# Altium footprint library AD74416HBCPZ.PcbLib: 3 footprints
Each footprint in its own frame and in the unit in brackets; x right, y up, seen from the top. Pads: shape width x height; smd on the part's side, far side on the other; paste and mask are expansions set on the pad; w line width, h text height; cw(c..) or ccw(c..) is an arc to the next point about the centre after c.
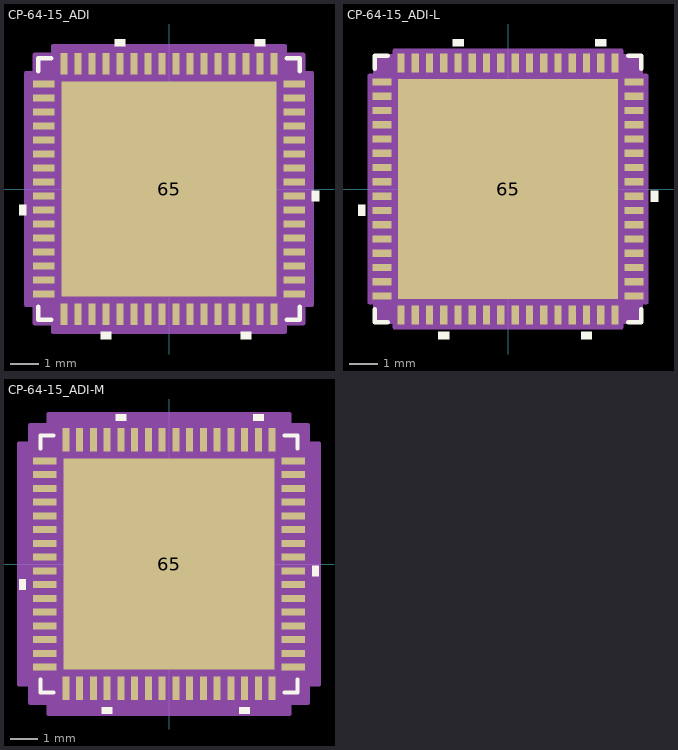
[diagram p0: the footprints below, top view; thin cyan lines are the x and y axes]

## CP-64-15_ADI [mil]
pads (65):
  rect 30x10 smd paste+0 mask+0: 1(-176,147.64) 2(-176,127.95) 3(-176,108.27) 4(-176,88.58) 5(-176,68.9) 6(-176,49.21) 7(-176,29.53) 8(-176,9.84) 9(-176,-9.84) 10(-176,-29.53) 11(-176,-49.21) 12(-176,-68.9) 13(-176,-88.58) 14(-176,-108.27) 15(-176,-127.95) 16(-176,-147.64) 33(176,-147.64) 34(176,-127.95) 35(176,-108.27) 36(176,-88.58) 37(176,-68.9) 38(176,-49.21) 39(176,-29.53) 40(176,-9.84) 41(176,9.84) 42(176,29.53) 43(176,49.21) 44(176,68.9) 45(176,88.58) 46(176,108.27) 47(176,127.95) 48(176,147.64)
  rect 10x30 smd paste+0 mask+0: 17(-147.64,-176) 18(-127.95,-176) 19(-108.27,-176) 20(-88.58,-176) 21(-68.9,-176) 22(-49.21,-176) 23(-29.53,-176) 24(-9.84,-176) 25(9.84,-176) 26(29.53,-176) 27(49.21,-176) 28(68.9,-176) 29(88.58,-176) 30(108.27,-176) 31(127.95,-176) 32(147.64,-176) 49(147.64,176) 50(127.95,176) 51(108.27,176) 52(88.58,176) 53(68.9,176) 54(49.21,176) 55(29.53,176) 56(9.84,176) 57(-9.84,176) 58(-29.53,176) 59(-49.21,176) 60(-68.9,176) 61(-88.58,176) 62(-108.27,176) 63(-127.95,176) 64(-147.64,176)
  rect 303x303 smd paste+0 mask+0: 65(0,0)
Top Overlay:
  region: -201,-22.03 -211,-22.03 -211,-37.03 -201,-37.03
  region: -81.08,-201 -96.08,-201 -96.08,-211 -81.08,-211
  region: 115.77,-201 100.77,-201 100.77,-211 115.77,-211
  region: 201,-2.34 211,-2.34 211,-17.34 201,-17.34
  region: 135.45,201 120.45,201 120.45,211 135.45,211
  region: -61.4,201 -76.4,201 -76.4,211 -61.4,211
  lines w6: -184,-165.74 -184,-184 -165.74,-184 ; -184,165.74 -184,184 -165.74,184 ; 165.74,-184 184,-184 184,-165.74 ; 165.74,184 184,184 184,165.74
  text "." at -225,145 h50
Mechanical 13:
  lines w1: -179,129 -129,179 ; -179,-179 179,-179 179,179 -179,179 -179,-179 ; -179,-153.64 -179,-141.64 -179,-153.64 ; -179,-133.95 -179,-121.95 -179,-133.95 ; -179,-114.27 -179,-102.27 -179,-114.27 ; -179,-94.58 -179,-82.58 -179,-94.58 ; -179,-74.9 -179,-62.9 -179,-74.9 ; -179,-55.21 -179,-43.21 -179,-55.21 ; -179,-35.53 -179,-23.53 -179,-35.53 ; -179,-15.84 -179,-3.84 -179,-15.84 ; -179,3.84 -179,15.84 -179,3.84 ; -179,23.53 -179,35.53 -179,23.53 ; -179,43.21 -179,55.21 -179,43.21 ; -179,62.9 -179,74.9 -179,62.9 ; -179,82.58 -179,94.58 -179,82.58 ; -179,102.27 -179,114.27 -179,102.27 ; -179,121.95 -179,133.95 -179,121.95 ; -179,141.64 -179,153.64 -179,141.64 ; -153.64,-179 -141.64,-179 -153.64,-179 ; -153.64,179 -141.64,179 -153.64,179 ; -133.95,-179 -121.95,-179 -133.95,-179 ; -133.95,179 -121.95,179 -133.95,179 ; -114.27,-179 -102.27,-179 -114.27,-179 ; -114.27,179 -102.27,179 -114.27,179 ; -94.58,-179 -82.58,-179 -94.58,-179 ; -94.58,179 -82.58,179 -94.58,179 ; -74.9,-179 -62.9,-179 -74.9,-179 ; -74.9,179 -62.9,179 -74.9,179 ; -55.21,-179 -43.21,-179 -55.21,-179 ; -55.21,179 -43.21,179 -55.21,179 ; -35.53,-179 -23.53,-179 -35.53,-179 ; -35.53,179 -23.53,179 -35.53,179 ; -15.84,-179 -3.84,-179 -15.84,-179 ; -15.84,179 -3.84,179 -15.84,179 ; 3.84,-179 15.84,-179 3.84,-179 ; 3.84,179 15.84,179 3.84,179 ; 23.53,-179 35.53,-179 23.53,-179 ; 23.53,179 35.53,179 23.53,179 ; 43.21,-179 55.21,-179 43.21,-179 ; 43.21,179 55.21,179 43.21,179 ; 62.9,-179 74.9,-179 62.9,-179 ; 62.9,179 74.9,179 62.9,179 ; 82.58,-179 94.58,-179 82.58,-179 ; 82.58,179 94.58,179 82.58,179 ; 102.27,-179 114.27,-179 102.27,-179 ; 102.27,179 114.27,179 102.27,179 ; 121.95,-179 133.95,-179 121.95,-179 ; 121.95,179 133.95,179 121.95,179 ; 141.64,-179 153.64,-179 141.64,-179 ; 141.64,179 153.64,179 141.64,179 ; 179,-153.64 179,-141.64 179,-153.64 ; 179,-133.95 179,-121.95 179,-133.95 ; 179,-114.27 179,-102.27 179,-114.27 ; 179,-94.58 179,-82.58 179,-94.58 ; 179,-74.9 179,-62.9 179,-74.9 ; 179,-55.21 179,-43.21 179,-55.21 ; 179,-35.53 179,-23.53 179,-35.53 ; 179,-15.84 179,-3.84 179,-15.84 ; 179,3.84 179,15.84 179,3.84 ; 179,23.53 179,35.53 179,23.53 ; 179,43.21 179,55.21 179,43.21 ; 179,62.9 179,74.9 179,62.9 ; 179,82.58 179,94.58 179,82.58 ; 179,102.27 179,114.27 179,102.27 ; 179,121.95 179,133.95 179,121.95 ; 179,141.64 179,153.64 179,141.64
  text "*" at -142.5,122.64 h50
Mechanical 15:
  region: -162.64,-189 -189,-189 -189,-162.64 -201,-162.64 -201,162.64 -189,162.64 -189,189 -162.64,189 -162.64,201 162.64,201 162.64,189 189,189 189,162.64 201,162.64 201,-162.64 189,-162.64 189,-189 162.64,-189 162.64,-201 -162.64,-201
  lines w6: -201,-162.64 -189,-162.64 -189,-189 -162.64,-189 -162.64,-201 162.64,-201 162.64,-189 189,-189 189,-162.64 201,-162.64 201,162.64 189,162.64 189,189 162.64,189 162.64,201 -162.64,201 -162.64,189 -189,189 -189,162.64 -201,162.64 -201,-162.64
3D body "CP-64-15_ADI.step": height 30.12, standoff 0, extent -179.02,-179.02 179.02,179.02

## CP-64-15_ADI-L [mil]
pads (65):
  rect 26x10 smd paste+0 mask+0: 1(-174,147.64) 2(-174,127.95) 3(-174,108.27) 4(-174,88.58) 5(-174,68.9) 6(-174,49.21) 7(-174,29.53) 8(-174,9.84) 9(-174,-9.84) 10(-174,-29.53) 11(-174,-49.21) 12(-174,-68.9) 13(-174,-88.58) 14(-174,-108.27) 15(-174,-127.95) 16(-174,-147.64) 33(174,-147.64) 34(174,-127.95) 35(174,-108.27) 36(174,-88.58) 37(174,-68.9) 38(174,-49.21) 39(174,-29.53) 40(174,-9.84) 41(174,9.84) 42(174,29.53) 43(174,49.21) 44(174,68.9) 45(174,88.58) 46(174,108.27) 47(174,127.95) 48(174,147.64)
  rect 10x26 smd paste+0 mask+0: 17(-147.64,-174) 18(-127.95,-174) 19(-108.27,-174) 20(-88.58,-174) 21(-68.9,-174) 22(-49.21,-174) 23(-29.53,-174) 24(-9.84,-174) 25(9.84,-174) 26(29.53,-174) 27(49.21,-174) 28(68.9,-174) 29(88.58,-174) 30(108.27,-174) 31(127.95,-174) 32(147.64,-174) 49(147.64,174) 50(127.95,174) 51(108.27,174) 52(88.58,174) 53(68.9,174) 54(49.21,174) 55(29.53,174) 56(9.84,174) 57(-9.84,174) 58(-29.53,174) 59(-49.21,174) 60(-68.9,174) 61(-88.58,174) 62(-108.27,174) 63(-127.95,174) 64(-147.64,174)
  rect 303x303 smd paste+0 mask+0: 65(0,0)
Top Overlay:
  region: -61.4,197 -76.4,197 -76.4,207 -61.4,207
  region: 135.45,197 120.45,197 120.45,207 135.45,207
  region: 197,-2.34 207,-2.34 207,-17.34 197,-17.34
  region: 115.77,-197 100.77,-197 100.77,-207 115.77,-207
  region: -81.08,-197 -96.08,-197 -96.08,-207 -81.08,-207
  region: -197,-22.03 -207,-22.03 -207,-37.03 -197,-37.03
  lines w6: -184,-165.74 -184,-184 -165.74,-184 ; -184,165.74 -184,184 -165.74,184 ; 165.74,-184 184,-184 184,-165.74 ; 165.74,184 184,184 184,165.74
  text "." at -210,145 h50
Mechanical 13:
  lines w1: -179,129 -129,179 ; -179,-179 -179,179 179,179 179,-179 -179,-179 ; -179,-153.64 -179,-141.64 -179,-153.64 ; -179,-133.95 -179,-121.95 -179,-133.95 ; -179,-114.27 -179,-102.27 -179,-114.27 ; -179,-94.58 -179,-82.58 -179,-94.58 ; -179,-74.9 -179,-62.9 -179,-74.9 ; -179,-55.21 -179,-43.21 -179,-55.21 ; -179,-35.53 -179,-23.53 -179,-35.53 ; -179,-15.84 -179,-3.84 -179,-15.84 ; -179,3.84 -179,15.84 -179,3.84 ; -179,23.53 -179,35.53 -179,23.53 ; -179,43.21 -179,55.21 -179,43.21 ; -179,62.9 -179,74.9 -179,62.9 ; -179,82.58 -179,94.58 -179,82.58 ; -179,102.27 -179,114.27 -179,102.27 ; -179,121.95 -179,133.95 -179,121.95 ; -179,141.64 -179,153.64 -179,141.64 ; -153.64,-179 -141.64,-179 -153.64,-179 ; -153.64,179 -141.64,179 -153.64,179 ; -133.95,-179 -121.95,-179 -133.95,-179 ; -133.95,179 -121.95,179 -133.95,179 ; -114.27,-179 -102.27,-179 -114.27,-179 ; -114.27,179 -102.27,179 -114.27,179 ; -94.58,-179 -82.58,-179 -94.58,-179 ; -94.58,179 -82.58,179 -94.58,179 ; -74.9,-179 -62.9,-179 -74.9,-179 ; -74.9,179 -62.9,179 -74.9,179 ; -55.21,-179 -43.21,-179 -55.21,-179 ; -55.21,179 -43.21,179 -55.21,179 ; -35.53,-179 -23.53,-179 -35.53,-179 ; -35.53,179 -23.53,179 -35.53,179 ; -15.84,-179 -3.84,-179 -15.84,-179 ; -15.84,179 -3.84,179 -15.84,179 ; 3.84,-179 15.84,-179 3.84,-179 ; 3.84,179 15.84,179 3.84,179 ; 23.53,-179 35.53,-179 23.53,-179 ; 23.53,179 35.53,179 23.53,179 ; 43.21,-179 55.21,-179 43.21,-179 ; 43.21,179 55.21,179 43.21,179 ; 62.9,-179 74.9,-179 62.9,-179 ; 62.9,179 74.9,179 62.9,179 ; 82.58,-179 94.58,-179 82.58,-179 ; 82.58,179 94.58,179 82.58,179 ; 102.27,-179 114.27,-179 102.27,-179 ; 102.27,179 114.27,179 102.27,179 ; 121.95,-179 133.95,-179 121.95,-179 ; 121.95,179 133.95,179 121.95,179 ; 141.64,-179 153.64,-179 141.64,-179 ; 141.64,179 153.64,179 141.64,179 ; 179,-153.64 179,-141.64 179,-153.64 ; 179,-133.95 179,-121.95 179,-133.95 ; 179,-114.27 179,-102.27 179,-114.27 ; 179,-94.58 179,-82.58 179,-94.58 ; 179,-74.9 179,-62.9 179,-74.9 ; 179,-55.21 179,-43.21 179,-55.21 ; 179,-35.53 179,-23.53 179,-35.53 ; 179,-15.84 179,-3.84 179,-15.84 ; 179,3.84 179,15.84 179,3.84 ; 179,23.53 179,35.53 179,23.53 ; 179,43.21 179,55.21 179,43.21 ; 179,62.9 179,74.9 179,62.9 ; 179,82.58 179,94.58 179,82.58 ; 179,102.27 179,114.27 179,102.27 ; 179,121.95 179,133.95 179,121.95 ; 179,141.64 179,153.64 179,141.64
  text "*" at -142.5,122.64 h50
Mechanical 15:
  region: -156.64,-183 -183,-183 -183,-156.64 -191,-156.64 -191,156.64 -183,156.64 -183,183 -156.64,183 -156.64,191 156.64,191 156.64,183 183,183 183,156.64 191,156.64 191,-156.64 183,-156.64 183,-183 156.64,-183 156.64,-191 -156.64,-191
  lines w6: -191,-156.64 -191,156.64 -183,156.64 -183,183 -156.64,183 -156.64,191 156.64,191 156.64,183 183,183 183,156.64 191,156.64 191,-156.64 183,-156.64 183,-183 156.64,-183 156.64,-191 -156.64,-191 -156.64,-183 -183,-183 -183,-156.64 -191,-156.64
3D body "CP-64-15_ADI.step": height 30.12, standoff 0, extent -179.02,-179.02 179.02,179.02

## CP-64-15_ADI-M [mil]
pads (65):
  rect 34x10 smd paste+0 mask+0: 1(-178,147.64) 2(-178,127.95) 3(-178,108.27) 4(-178,88.58) 5(-178,68.9) 6(-178,49.21) 7(-178,29.53) 8(-178,9.84) 9(-178,-9.84) 10(-178,-29.53) 11(-178,-49.21) 12(-178,-68.9) 13(-178,-88.58) 14(-178,-108.27) 15(-178,-127.95) 16(-178,-147.64) 33(178,-147.64) 34(178,-127.95) 35(178,-108.27) 36(178,-88.58) 37(178,-68.9) 38(178,-49.21) 39(178,-29.53) 40(178,-9.84) 41(178,9.84) 42(178,29.53) 43(178,49.21) 44(178,68.9) 45(178,88.58) 46(178,108.27) 47(178,127.95) 48(178,147.64)
  rect 10x34 smd paste+0 mask+0: 17(-147.64,-178) 18(-127.95,-178) 19(-108.27,-178) 20(-88.58,-178) 21(-68.9,-178) 22(-49.21,-178) 23(-29.53,-178) 24(-9.84,-178) 25(9.84,-178) 26(29.53,-178) 27(49.21,-178) 28(68.9,-178) 29(88.58,-178) 30(108.27,-178) 31(127.95,-178) 32(147.64,-178) 49(147.64,178) 50(127.95,178) 51(108.27,178) 52(88.58,178) 53(68.9,178) 54(49.21,178) 55(29.53,178) 56(9.84,178) 57(-9.84,178) 58(-29.53,178) 59(-49.21,178) 60(-68.9,178) 61(-88.58,178) 62(-108.27,178) 63(-127.95,178) 64(-147.64,178)
  rect 303x303 smd paste+0 mask+0: 65(0,0)
Top Overlay:
  region: -61.4,205 -76.4,205 -76.4,215 -61.4,215
  region: 135.45,205 120.45,205 120.45,215 135.45,215
  region: 205,-2.34 215,-2.34 215,-17.34 205,-17.34
  region: 115.77,-205 100.77,-205 100.77,-215 115.77,-215
  region: -81.08,-205 -96.08,-205 -96.08,-215 -81.08,-215
  region: -205,-22.03 -215,-22.03 -215,-37.03 -205,-37.03
  lines w6: -184,-165.74 -184,-184 -165.74,-184 ; -184,165.74 -184,184 -165.74,184 ; 165.74,-184 184,-184 184,-165.74 ; 165.74,184 184,184 184,165.74
  text "." at -225,145 h50
Mechanical 13:
  lines w1: -179,129 -129,179 ; -179,-179 -179,179 179,179 179,-179 -179,-179 ; -179,-153.64 -179,-141.64 -179,-153.64 ; -179,-133.95 -179,-121.95 -179,-133.95 ; -179,-114.27 -179,-102.27 -179,-114.27 ; -179,-94.58 -179,-82.58 -179,-94.58 ; -179,-74.9 -179,-62.9 -179,-74.9 ; -179,-55.21 -179,-43.21 -179,-55.21 ; -179,-35.53 -179,-23.53 -179,-35.53 ; -179,-15.84 -179,-3.84 -179,-15.84 ; -179,3.84 -179,15.84 -179,3.84 ; -179,23.53 -179,35.53 -179,23.53 ; -179,43.21 -179,55.21 -179,43.21 ; -179,62.9 -179,74.9 -179,62.9 ; -179,82.58 -179,94.58 -179,82.58 ; -179,102.27 -179,114.27 -179,102.27 ; -179,121.95 -179,133.95 -179,121.95 ; -179,141.64 -179,153.64 -179,141.64 ; -153.64,-179 -141.64,-179 -153.64,-179 ; -153.64,179 -141.64,179 -153.64,179 ; -133.95,-179 -121.95,-179 -133.95,-179 ; -133.95,179 -121.95,179 -133.95,179 ; -114.27,-179 -102.27,-179 -114.27,-179 ; -114.27,179 -102.27,179 -114.27,179 ; -94.58,-179 -82.58,-179 -94.58,-179 ; -94.58,179 -82.58,179 -94.58,179 ; -74.9,-179 -62.9,-179 -74.9,-179 ; -74.9,179 -62.9,179 -74.9,179 ; -55.21,-179 -43.21,-179 -55.21,-179 ; -55.21,179 -43.21,179 -55.21,179 ; -35.53,-179 -23.53,-179 -35.53,-179 ; -35.53,179 -23.53,179 -35.53,179 ; -15.84,-179 -3.84,-179 -15.84,-179 ; -15.84,179 -3.84,179 -15.84,179 ; 3.84,-179 15.84,-179 3.84,-179 ; 3.84,179 15.84,179 3.84,179 ; 23.53,-179 35.53,-179 23.53,-179 ; 23.53,179 35.53,179 23.53,179 ; 43.21,-179 55.21,-179 43.21,-179 ; 43.21,179 55.21,179 43.21,179 ; 62.9,-179 74.9,-179 62.9,-179 ; 62.9,179 74.9,179 62.9,179 ; 82.58,-179 94.58,-179 82.58,-179 ; 82.58,179 94.58,179 82.58,179 ; 102.27,-179 114.27,-179 102.27,-179 ; 102.27,179 114.27,179 102.27,179 ; 121.95,-179 133.95,-179 121.95,-179 ; 121.95,179 133.95,179 121.95,179 ; 141.64,-179 153.64,-179 141.64,-179 ; 141.64,179 153.64,179 141.64,179 ; 179,-153.64 179,-141.64 179,-153.64 ; 179,-133.95 179,-121.95 179,-133.95 ; 179,-114.27 179,-102.27 179,-114.27 ; 179,-94.58 179,-82.58 179,-94.58 ; 179,-74.9 179,-62.9 179,-74.9 ; 179,-55.21 179,-43.21 179,-55.21 ; 179,-35.53 179,-23.53 179,-35.53 ; 179,-15.84 179,-3.84 179,-15.84 ; 179,3.84 179,15.84 179,3.84 ; 179,23.53 179,35.53 179,23.53 ; 179,43.21 179,55.21 179,43.21 ; 179,62.9 179,74.9 179,62.9 ; 179,82.58 179,94.58 179,82.58 ; 179,102.27 179,114.27 179,102.27 ; 179,121.95 179,133.95 179,121.95 ; 179,141.64 179,153.64 179,141.64
  text "*" at -142.5,122.64 h50
Mechanical 15:
  region: -172.64,-199 -199,-199 -199,-172.64 -215,-172.64 -215,172.64 -199,172.64 -199,199 -172.64,199 -172.64,215 172.64,215 172.64,199 199,199 199,172.64 215,172.64 215,-172.64 199,-172.64 199,-199 172.64,-199 172.64,-215 -172.64,-215
  lines w6: -215,-172.64 -215,172.64 -199,172.64 -199,199 -172.64,199 -172.64,215 172.64,215 172.64,199 199,199 199,172.64 215,172.64 215,-172.64 199,-172.64 199,-199 172.64,-199 172.64,-215 -172.64,-215 -172.64,-199 -199,-199 -199,-172.64 -215,-172.64
3D body "CP-64-15_ADI.step": height 30.12, standoff 0, extent -179.02,-179.02 179.02,179.02